# Altium integrated library GP1S196HCZ0F.IntLib: 1 symbol
Pins are listed as number, name and electrical type; pins without a type are passive.

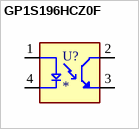
[diagram p0: symbol GP1S196HCZ0F]

## GP1S196HCZ0F
designator U?
Optical Sensor Through-Beam 0.043 (1.1mm) Phototransistor PCB Mount; MF: Sharp Microelectronics; MP: GP1S196HCZ0F; Availability: Warning; Value: *; Check_prices: https://www.snapeda.com/parts/GP1S196HCZ0F/Sharp%20Microelectronics/view-part/2699849/?ref=eda; Package: PCB Mount Sharp; SnapEDA_Link: https://www.snapeda.com/parts/GP1S196HCZ0F/Sharp%20Microelectronics/view-part/2699849/?ref=snap; Price: None; Purchase-URL: https://pricing.snapeda.com/search/part/GP1S196HCZ0F/?ref=eda
footprint OPTO_GP1S196HCZ0F
pins: 1 A, 2 CT, 3 ET, 4 C